# Altium footprint library PTN Connectors Footprint.PcbLib: 27 footprints (part 1 of 2)
Each footprint in its own frame and in the unit in brackets; x right, y up, seen from the top. Pads: shape width x height; smd on the part's side, far side on the other; paste and mask are expansions set on the pad; w line width, h text height; cw(c..) or ccw(c..) is an arc to the next point about the centre after c.
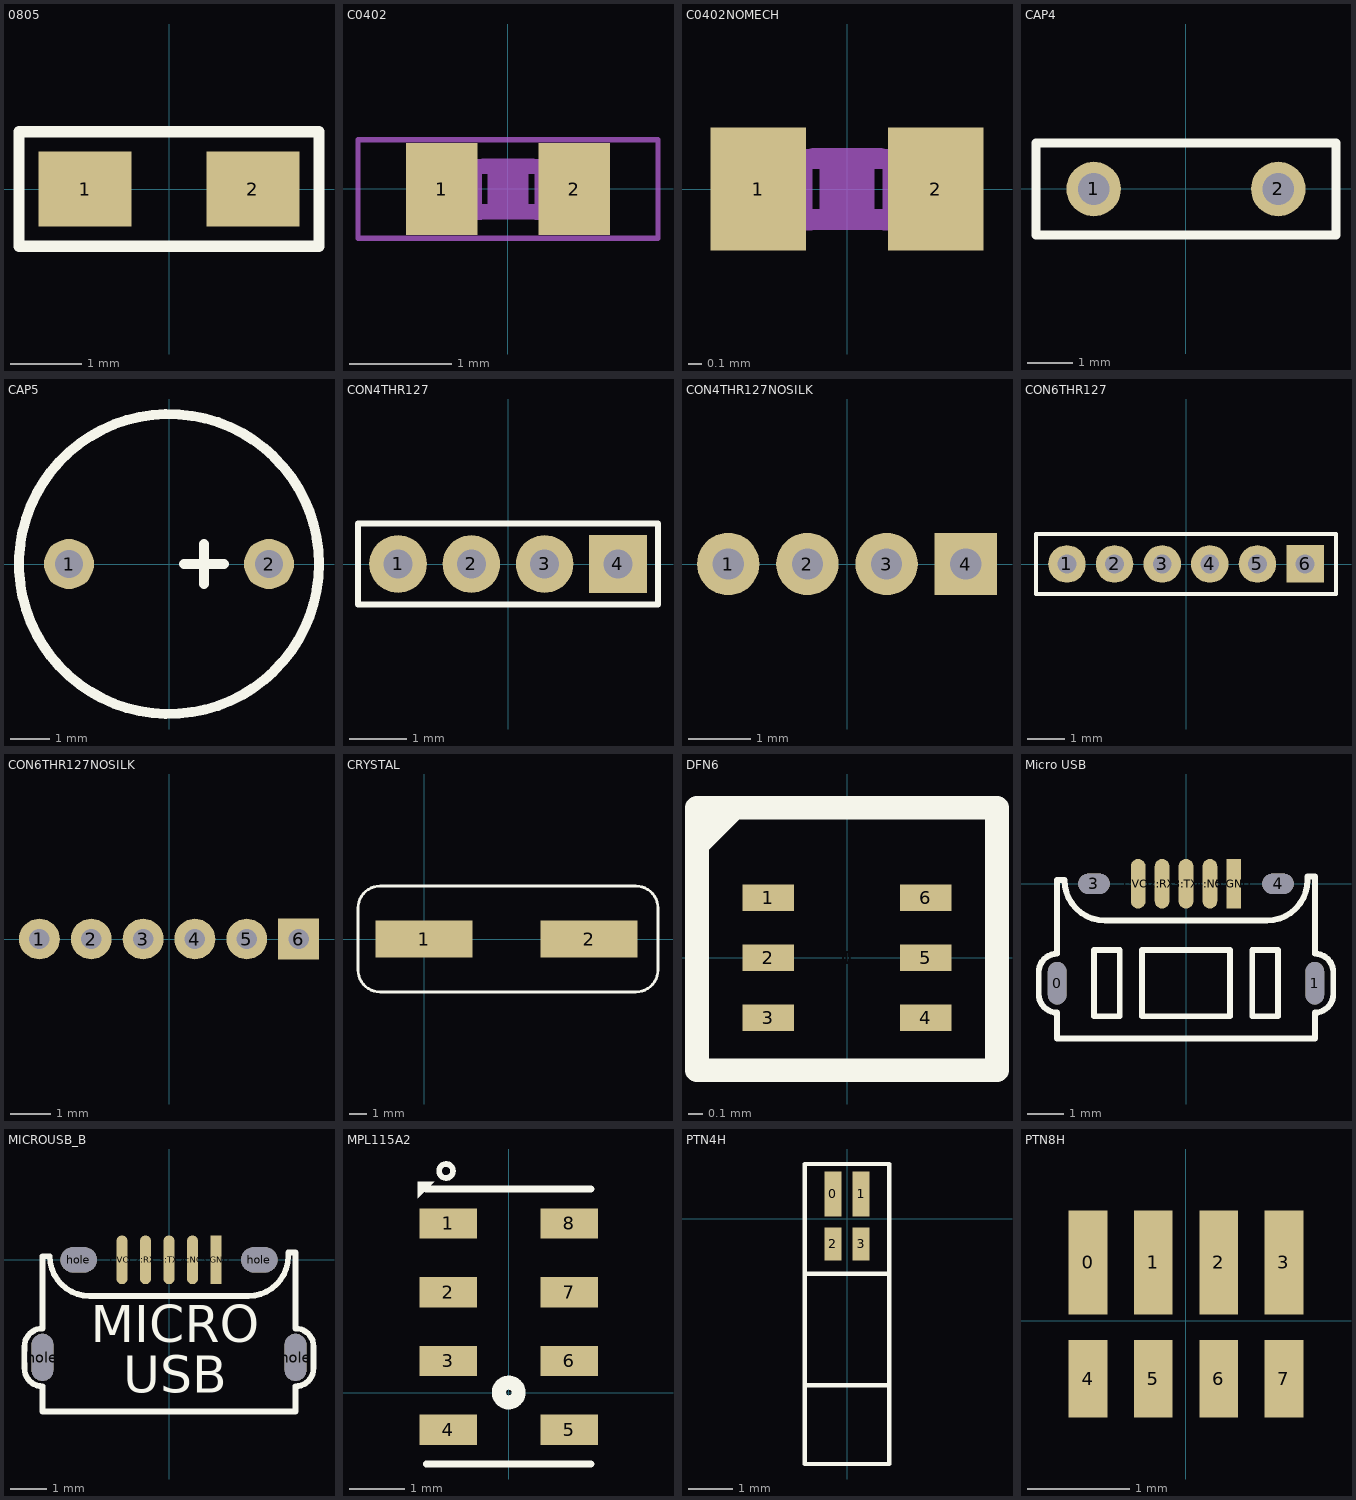
[diagram p0: the footprints below, top view; thin cyan lines are the x and y axes]

## 0805 [mm]
pads (2):
  rect 1.3x1.05 smd: 1(-1.175,0) 2(1.175,0)
Top Overlay:
  lines w0.16: -2.1,-0.8 -2.1,0.8 2.1,0.8 2.1,-0.8 -2.1,-0.8

## C0402 [mm]
pads (2):
  rect 0.7x0.9 smd: 1(-0.65,0) 2(0.65,0)
Mechanical 6:
  rectangle: -0.2,-0.3 0.2,0.3
Mechanical 16:
  rectangle: -0.554,-0.305 -0.254,0.295
  rectangle: 0.259,-0.305 0.559,0.295
  lines w0.051: -1.473,-0.483 1.473,-0.483 1.473,0.483 -1.473,0.483 -1.473,-0.483
  lines w0.152: -0.245,-0.224 0.245,-0.224 ; -0.245,0.224 0.245,0.224

## C0402NOMECH [mm]
pads (2):
  rect 0.7x0.9 smd: 1(-0.65,0) 2(0.65,0)
Mechanical 6:
  rectangle: -0.2,-0.3 0.2,0.3
Mechanical 16:
  rectangle: -0.554,-0.305 -0.254,0.295
  rectangle: 0.259,-0.305 0.559,0.295
  lines w0.152: -0.245,-0.224 0.245,-0.224 ; -0.245,0.224 0.245,0.224

## CAP4 [mm] "Radial Cap, Thru-Hole; 2 Leads; 4mm Pin Spacing"
pads (2):
  round 1.2 hole 0.7: 1(-2.032,0) 2(2.032,0)
Top Overlay:
  lines w0.2: -3.302,-1.016 -3.302,1.016 3.302,1.016 3.302,-1.016 -3.302,-1.016

## CAP5 [mil] "Capacitor, Through Hole, 5mm pin Spacing"
pads (2):
  round 50 hole 28: 1(-100,0) 2(100,0)
Top Overlay:
  circle w10: c0,0 r150
  lines w10: 15,0 55,0 ; 35,-20 35,20

## CON4THR127 [mm] "Connector, Through Hole, 1.27mm"
pads (4):
  round 1 hole 0.5: 1(-1.905,0) 2(-0.635,0) 3(0.635,0)
  rect 1x1 hole 0.5: 4(1.905,0)
Top Overlay:
  lines w0.1: -2.6,-0.7 -2.6,0.7 -1.255,0.7 1.095,0.7 2.6,0.7 2.6,0.08 2.6,-0.28 2.6,-0.7 -2.6,-0.7

## CON4THR127NOSILK [mm] "Connector, Through Hole, 1.27mm"
pads (4):
  round 1 hole 0.5: 1(-1.905,0) 2(-0.635,0) 3(0.635,0)
  rect 1x1 hole 0.5: 4(1.905,0)

## CON6THR127 [mm] "Connector, Through Hole, 1.27mm"
pads (6):
  round 1 hole 0.5: 1(-3.175,0) 2(-1.905,0) 3(-0.635,0) 4(0.635,0) 5(1.905,0)
  rect 1x1 hole 0.5: 6(3.175,0)
Top Overlay:
  lines w0.1: -4,-0.8 4,-0.8 4,0.8 -4,0.8 -4,-0.8

## CON6THR127NOSILK [mm] "Connector, Through Hole, 1.27mm"
pads (6):
  round 1 hole 0.5: 1(-3.175,0) 2(-1.905,0) 3(-0.635,0) 4(0.635,0) 5(1.905,0)
  rect 1x1 hole 0.5: 6(3.175,0)

## CRYSTAL [mil]
pads (2):
  rect 220x83 smd: 1(0,0) 2(374,0)
Top Overlay:
  lines w6.3: -150,-70 ccw(c-100,-70) -100,-120 -20,-120 470,-120 480,-120 ccw(c480,-70) 530,-70 530,-10 530,70 ccw(c480,70) 480,120 440,120 -80,120 -100,120 ccw(c-100,70) -150,70 -150,0 -150,-70

## DFN6 [mil]
pads (8):
  rect 6x30 on Top Paste: 0(0,0)
  rect 13.8x7.1 smd: 1(-21,16) 2(-21,0) 3(-21,-16) 4(21,-16) 5(21,0) 6(21,16)
  rect 12x37 on Top Solder: 1(0,0)
Top Overlay:
  lines w6.3: -40,30 -30,40 ; -40,-30 40,-30 40,40 -40,40 -40,-30

## Micro USB [mm]
pads (9):
  rrect100% 0.5x1.15 hole 0.5 slot 1.15 at 90 deg unplated: 0(-3.5,-2.7) 1(3.5,-2.7)
  oval 0.4x1.35 smd: 1:VCC(-1.3,0) 2:RX(-0.65,0) 3:TX(0,0) 4:NC(0.65,0)
  rrect100% 0.85x0.55 hole 0.55 slot 0.85 at 0 deg unplated: 3(-2.5,0) 4(2.5,0)
  rect 0.4x1.35 smd: 5:GND(1.3,0)
Top Overlay:
  lines w0.16: -4,-3 ccw(c-3.5,-3) -3.5,-3.5 -3.5,-4.2 3.5,-4.2 3.5,-3.5 ccw(c3.5,-3) 4,-3 4,-2.7 4,-2.4 ccw(c3.5,-2.4) 3.5,-1.9 3.5,0.2 3.3,0.2 3.3,0.1 cw(c2.2,0.1) 2.2,-1 -2.2,-1 cw(c-2.2,0.1) -3.3,0.1 -3.5,0.1 -3.5,-1.9 ccw(c-3.5,-2.4) -4,-2.4 -4,-2.7 -4,-3 ; -2.5,-3.6 -1.8,-3.6 -1.8,-1.8 -2.5,-1.8 -2.5,-3.6 ; -1.2,-3.6 1.2,-3.6 1.2,-1.8 -1.2,-1.8 -1.2,-3.6 ; 1.8,-3.6 1.8,-1.8 2.5,-1.8 2.5,-3.6 1.9,-3.6 1.8,-3.6

## MICROUSB_B [mm] "Micro USB Type B Footprint"
pads (9):
  oval 0.305x1.35 smd mask+0.102: 1:VCC(-1.3,0) 2:RX(-0.65,0) 3:TX(0,0) 4:NC(0.65,0)
  rect 0.305x1.35 smd mask+0.102: 5:GND(1.3,0)
  rrect100% 0.6x1.3 hole 0.6 slot 1.3 at 90 deg unplated: hole(-3.5,-2.7) hole(3.5,-2.7)
  rrect100% 1x0.7 hole 0.7 slot 1 at 0 deg unplated: hole(-2.5,0) hole(2.5,0)
Top Overlay:
  lines w0.16: -4,-3 ccw(c-3.5,-3) -3.5,-3.5 -3.5,-4.2 3.5,-4.2 3.5,-3.5 ccw(c3.5,-3) 4,-3 4,-2.7 4,-2.4 ccw(c3.5,-2.4) 3.5,-1.9 3.5,0.2 3.3,0.2 3.3,0.1 cw(c2.2,0.1) 2.2,-1 -2.2,-1 cw(c-2.2,0.1) -3.3,0.1 -3.5,0.1 -3.5,-1.9 ccw(c-3.5,-2.4) -4,-2.4 -4,-2.7 -4,-3
  text "MICRO" at -2.159,-2.286 h1.02
  text "USB" at -1.27,-3.683 h1.02

## MPL115A2 [mm]
pads (8):
  rect 1.05x0.55 smd: 1(-1.1,3.075) 2(-1.1,1.825) 3(-1.1,0.575) 4(-1.1,-0.675) 5(1.1,-0.675) 6(1.1,0.575) 7(1.1,1.825) 8(1.1,3.075)
Top Overlay:
  circle w0.102: c-1.14,4.03 r0.127
  circle w0.254: c0,0 r0.18
  region: -1.351,3.833 -1.651,3.533 -1.651,3.833
  lines w0.127: -1.5,-1.3 1.5,-1.3 ; -1.5,3.7 1.5,3.7

## PTN4H [mm]
pads (4):
  rect 0.38x1.02 smd: 0(-0.32,0.57) 1(0.32,0.57)
  rect 0.38x0.76 smd: 2(-0.32,-0.57) 3(0.32,-0.57)
Top Overlay:
  lines w0.1: -0.96,-3.79 0.96,-3.79 ; 0.94,1.25 -0.02,1.25 -0.96,1.25 -0.96,-1.25 ; 0.96,1.25 0.96,-1.25 ; -0.96,-1.25 -0.96,-5.58 0.96,-5.58 0.96,-1.25 ; -0.96,-1.25 0.96,-1.25

## PTN8H [mm]
pads (8):
  rect 0.38x1.02 smd: 0(-0.96,0.57) 1(-0.32,0.57) 2(0.32,0.57) 3(0.96,0.57)
  rect 0.38x0.76 smd: 4(-0.96,-0.57) 5(-0.32,-0.57) 6(0.32,-0.57) 7(0.96,-0.57)